# EAGLE library part F09 (library powerboard)
HARTING SUB-D
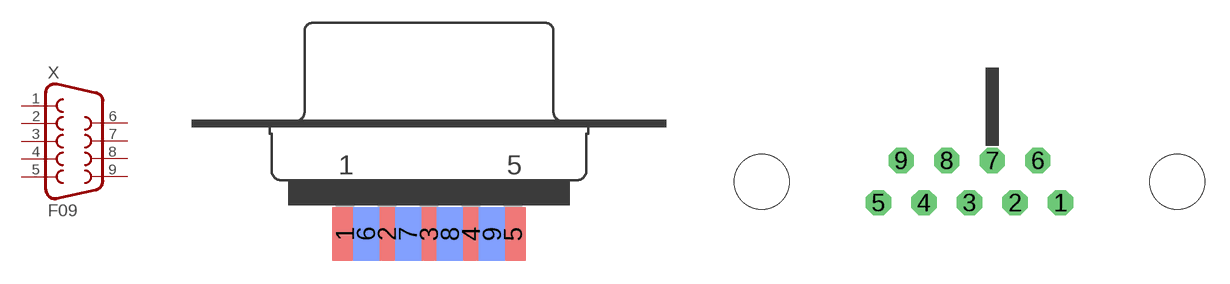
[diagram p3: symbol with the pads of F09D; footprints F09D, F09H]

Designator prefix X

## F09D  [F09D]
1  1  pas
2  2  pas
3  3  pas
4  4  pas
5  5  pas
6  6  pas
7  7  pas
8  8  pas
9  9  pas

## F09H  [F09H]
Pads as for F09D

## F09HP  [F09HP]
Pads as for F09D

## F09V  [F09V]
Pads as for F09D

## F09VB  [F09VB]
Pads as for F09D

## F09VP  [F09VP]
Pads as for F09D

## Footprint F09D (pad centres in mm)
HARTING SUB-D
smd 1.7 x 3.5: 1 -5.486,-6.045; 2 -2.743,-6.045; 3 0,-6.045; 4 2.743,-6.045; 5 5.486,-6.045
smd 1.7 x 3.5 bottom: 6 -4.115,-6.045; 7 -1.372,-6.045; 8 1.372,-6.045; 9 4.115,-6.045

## Footprint F09H (pad centres in mm)
HARTING SUB-D
drill 1.016 octagon: 1 0.406,-1.27; 2 -2.337,-1.27; 3 -5.08,-1.27; 4 -7.823,-1.27; 5 -10.566,-1.27; 6 -0.965,1.27; 7 -3.708,1.27; 8 -6.452,1.27; 9 -9.195,1.27
hole 3.302 at 7.442,0
hole 3.302 at -17.602,0

## Footprint F09HP (pad centres in mm)
HARTING SUB-D
drill 1.016 octagon: 1 -5.486,-1.27; 2 -2.743,-1.27; 3 0,-1.27; 4 2.743,-1.27; 5 5.486,-1.27; 6 -4.115,1.27; 7 -1.372,1.27; 8 1.372,1.27; 9 4.115,1.27
drill 3.302 pad 5.08: G1 -12.522,0; G2 12.522,0

## Footprint F09V (pad centres in mm)
HARTING SUB-D
drill 1.016 octagon: 1 -5.486,-1.422; 2 -2.743,-1.422; 3 0,-1.422; 4 2.743,-1.422; 5 5.486,-1.422; 6 -4.115,1.422; 7 -1.372,1.422; 8 1.372,1.422; 9 4.115,1.422
hole 3.302 at 12.522,0
hole 3.302 at -12.522,0

## Footprint F09VB (pad centres in mm)
drill 1.016 octagon: 1 -5.486,-1.422; 2 -2.743,-1.422; 3 0,-1.422; 4 2.743,-1.422; 5 5.486,-1.422; 6 -4.115,1.422; 7 -1.372,1.422; 8 1.372,1.422; 9 4.115,1.422

## Footprint F09VP (pad centres in mm)
HARTING SUB-D
drill 1.016 octagon: 1 -5.486,-1.422; 2 -2.743,-1.422; 3 0,-1.422; 4 2.743,-1.422; 5 5.486,-1.422; 6 -4.115,1.422; 7 -1.372,1.422; 8 1.372,1.422; 9 4.115,1.422
drill 3.302 pad 5.08: G1 12.522,0; G2 -12.522,0